# Altium schematic symbol library TitleBlock.SchLib: 1 symbol
Pins are listed as number, name and electrical type; pins without a type are passive.

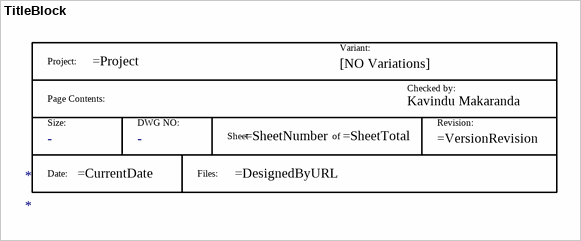
[diagram p0: symbol TitleBlock]

## TitleBlock
designator *  (graphical)
Standard Title Block; DWG NO: -; Size: -
text: Project:; Variant:; [NO Variations]; Checked by:; Page Contents:; Kavindu Makaranda; Size:; DWG NO:; Sheet; of; Revision:; Date:; Files: